# Altium footprint library 实验2自建封装库.PcbLib: 3 footprints
Each footprint in its own frame and in the unit in brackets; x right, y up, seen from the top. Pads: shape width x height; smd on the part's side, far side on the other; paste and mask are expansions set on the pad; w line width, h text height; cw(c..) or ccw(c..) is an arc to the next point about the centre after c.
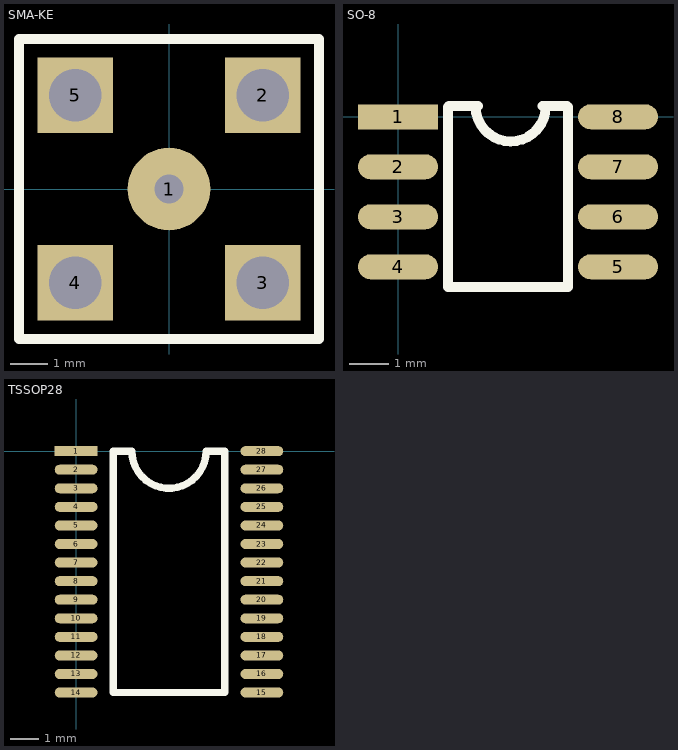
[diagram p0: the footprints below, top view; thin cyan lines are the x and y axes]

## SMA-KE [mm]
pads (5):
  round 2.2 hole 0.762: 1(0,0)
  rect 2x2 hole 1.4: 2(2.5,2.5) 3(2.5,-2.5) 4(-2.5,-2.5) 5(-2.5,2.5)
Top Overlay:
  lines w0.254: -4,-4 -4,4 4,4 4,-4 -4,-4

## SO-8 [mil]
pads (8):
  rect 80x25 / inner round 60 / far side round 0 all layers, no hole: 1(0,0)
  oval 80x25 / inner round 60 / far side round 0 all layers, no hole: 2(0,-50) 3(0,-100) 4(0,-150) 5(220,-150) 6(220,-100) 7(220,-50) 8(220,0)
Top Overlay:
  lines w10: 77.54,9.84 ccw(c112.65,10.55) 147.76,9.82 ; 79.77,10.98 50.98,10.98 50,10 50,-170 170,-170 170,10 169.03,10.97 144.55,10.97

## TSSOP28 [mm]
pads (28):
  rect 1.5x0.35 / inner round 1.524 / far side round 0 all layers, no hole: 1(0,0)
  oval 1.5x0.35 / inner round 1.524 / far side round 0 all layers, no hole: 2(0,-0.65) 3(0,-1.3) 4(0,-1.95) 5(0,-2.6) 6(0,-3.25) 7(0,-3.9) 8(0,-4.55) 9(0,-5.2) 10(0,-5.85) 11(0,-6.5) 12(0,-7.15) 13(0,-7.8) 14(0,-8.45) 15(6.5,-8.45) 16(6.5,-7.8) 17(6.5,-7.15) 18(6.5,-6.5) 19(6.5,-5.85) 20(6.5,-5.2) 21(6.5,-4.55) 22(6.5,-3.9) 23(6.5,-3.25) 24(6.5,-2.6) 25(6.5,-1.95) 26(6.5,-1.3) 27(6.5,-0.65) 28(6.5,0)
Top Overlay:
  lines w0.254: 1.3,-8.45 1.3,0 1.95,0 ccw(c3.25,0) 4.55,0 5.2,0 5.2,-8.45 1.3,-8.45